# Altium footprint library ANT-F.PcbLib: 1 footprints
Each footprint in its own frame and in the unit in brackets; x right, y up, seen from the top. Pads: shape width x height; smd on the part's side, far side on the other; paste and mask are expansions set on the pad; w line width, h text height; cw(c..) or ccw(c..) is an arc to the next point about the centre after c.
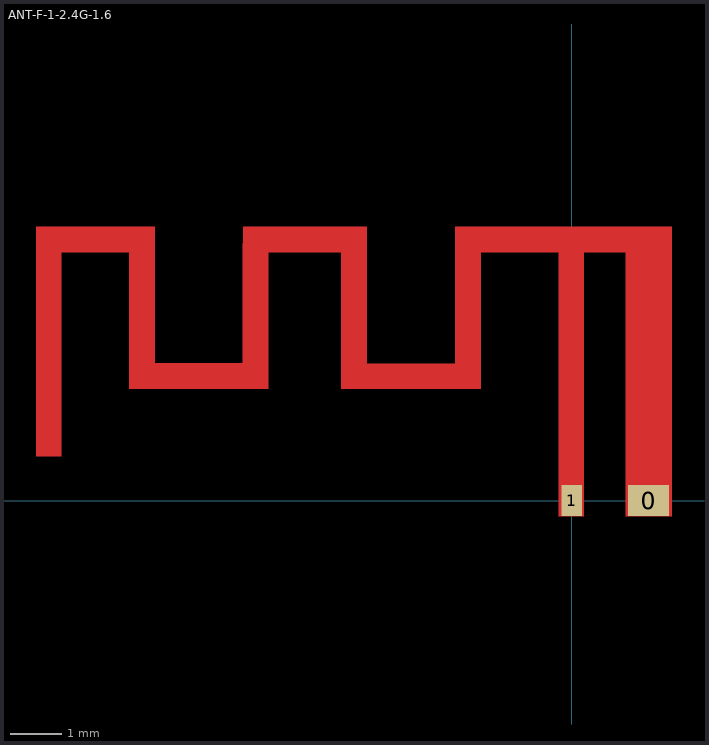
[diagram p0: the footprint, top view; thin cyan lines are the x and y axes]

## ANT-F-1-2.4G-1.6 [mm]
height 7
pads (2):
  rect 0.8x0.6 smd mask+0: 0(1.483,0)
  rect 0.4x0.6 smd mask+0: 1(0,0)
Top Layer:
  region: -9.86,4.976 -10.36,4.976 -10.36,0.856 -9.86,0.856
  region: -8.06,5.296 -10.36,5.296 -10.36,4.796 -8.06,4.796
  region: -8.06,4.977 -8.56,4.977 -8.56,2.157 -8.06,2.157
  region: -5.875,2.657 -8.364,2.657 -8.364,2.157 -5.875,2.157
  region: -5.86,4.977 -6.36,4.977 -6.36,2.157 -5.86,2.157
  region: -3.96,5.296 -6.36,5.296 -6.36,4.796 -3.96,4.796
  region: -3.96,4.976 -4.46,4.976 -4.46,2.156 -3.96,2.156
  region: -1.85,2.651 -4.39,2.651 -4.39,2.156 -1.85,2.156
  region: -1.76,4.977 -2.26,4.977 -2.26,2.157 -1.76,2.157
  region: 1.94,5.296 -2.26,5.296 -2.26,4.796 1.94,4.796
  region: 1.94,5.002 1.04,5.002 1.04,-0.304 1.94,-0.304
  region: 0.24,5.027 -0.26,5.027 -0.26,-0.304 0.24,-0.304
Top Solder:
  region: 0.24,5.027 -0.26,5.027 -0.26,-0.304 0.24,-0.304
  region: 1.94,5.002 1.04,5.002 1.04,-0.304 1.94,-0.304
  region: 1.94,5.296 -2.26,5.296 -2.26,4.796 1.94,4.796
  region: -1.76,4.977 -2.26,4.977 -2.26,2.157 -1.76,2.157
  region: -1.85,2.651 -4.39,2.651 -4.39,2.156 -1.85,2.156
  region: -3.96,4.976 -4.46,4.976 -4.46,2.156 -3.96,2.156
  region: -3.96,5.296 -6.36,5.296 -6.36,4.796 -3.96,4.796
  region: -5.86,4.977 -6.36,4.977 -6.36,2.157 -5.86,2.157
  region: -5.875,2.657 -8.364,2.657 -8.364,2.157 -5.875,2.157
  region: -8.06,4.977 -8.56,4.977 -8.56,2.157 -8.06,2.157
  region: -8.06,5.296 -10.36,5.296 -10.36,4.796 -8.06,4.796
  region: -9.86,4.976 -10.36,4.976 -10.36,0.856 -9.86,0.856